# EAGLE library part PINHD-2X8-WILD (library Custom)
PIN HEADER
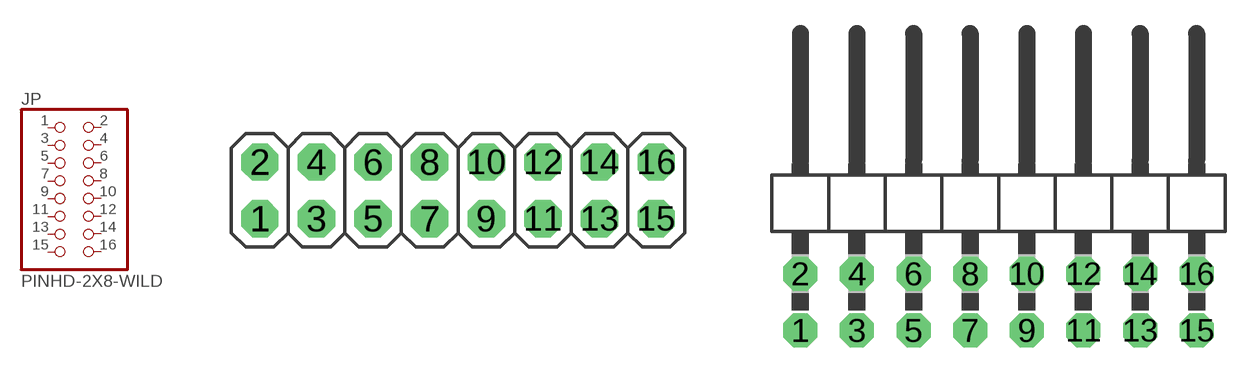
[diagram p79: symbol with the pads of 2X08; footprints 2X08, 2X08/90]

Designator prefix JP

## PINHD-2X8-WILD  [2X08]
1  1  pas
2  2  pas
3  3  pas
4  4  pas
5  5  pas
6  6  pas
7  7  pas
8  8  pas
9  9  pas
10  10  pas
11  11  pas
12  12  pas
13  13  pas
14  14  pas
15  15  pas
16  16  pas

## PINHD-2X8-WILD/90  [2X08/90]
Pads as for 2X08

## PINHD-2X8-WILD2X08_WILD  [2X08_WILD]
Pads as for 2X08

## Footprint 2X08 (pad centres in mm)
PIN HEADER
drill 1.016 pad 1.676 octagon: 1 -8.89,-1.27; 2 -8.89,1.27; 3 -6.35,-1.27; 4 -6.35,1.27; 5 -3.81,-1.27; 6 -3.81,1.27; 7 -1.27,-1.27; 8 -1.27,1.27; 9 1.27,-1.27; 10 1.27,1.27; 11 3.81,-1.27; 12 3.81,1.27; 13 6.35,-1.27; 14 6.35,1.27; 15 8.89,-1.27; 16 8.89,1.27

## Footprint 2X08/90 (pad centres in mm)
PIN HEADER
drill 1.016 octagon: 1 -8.89,-6.35; 2 -8.89,-3.81; 3 -6.35,-6.35; 4 -6.35,-3.81; 5 -3.81,-6.35; 6 -3.81,-3.81; 7 -1.27,-6.35; 8 -1.27,-3.81; 9 1.27,-6.35; 10 1.27,-3.81; 11 3.81,-6.35; 12 3.81,-3.81; 13 6.35,-6.35; 14 6.35,-3.81; 15 8.89,-6.35; 16 8.89,-3.81

## Footprint 2X08_WILD (pad centres in mm)
PIN HEADER
drill 1.016 pad 1.676 octagon: 1 -8.89,-6.35; 2 -8.89,1.27; 3 -6.35,-6.35; 4 -6.35,1.27; 5 -3.81,-6.35; 6 -3.81,1.27; 7 -1.27,-6.35; 8 -1.27,1.27; 9 1.27,-6.35; 10 1.27,1.27; 11 3.81,-6.35; 12 3.81,1.27; 13 6.35,-6.35; 14 6.35,1.27; 15 8.89,-6.35; 16 8.89,1.27